# Altium footprint library SOCKET mikroBUS 16 SMD.PcbLib: 1 footprints
Each footprint in its own frame and in the unit in brackets; x right, y up, seen from the top. Pads: shape width x height; smd on the part's side, far side on the other; paste and mask are expansions set on the pad; w line width, h text height; cw(c..) or ccw(c..) is an arc to the next point about the centre after c.
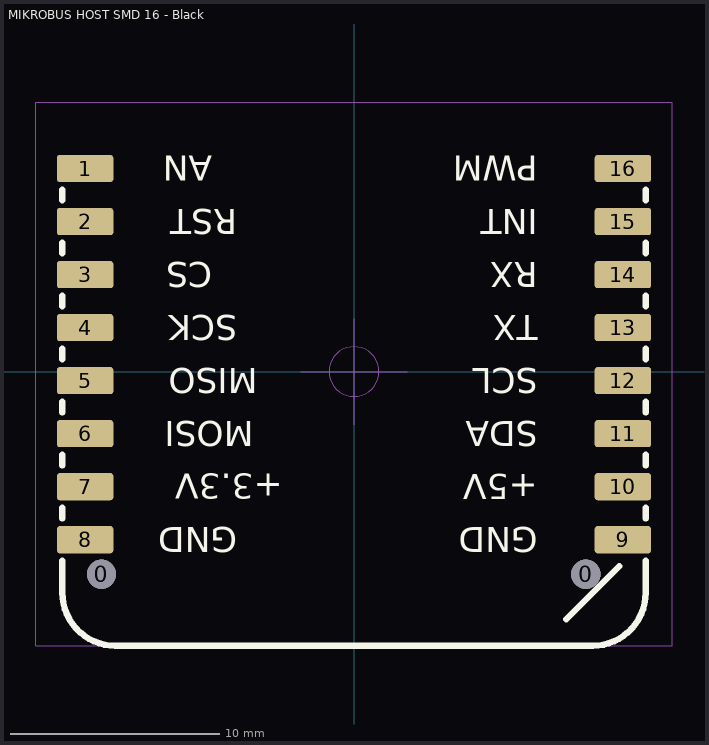
[diagram p0: the footprint, top view; thin cyan lines are the x and y axes]

## MIKROBUS HOST SMD 16 - Black [mm]
height 3.16
pads (18):
  round 1.4 hole 1.4 unplated: 0(-12.094,-9.703) 0(11.106,-9.703)
  rrect20% 2.7x1.3 smd mask+0.076: 1(-12.88,9.728) 2(-12.88,7.188) 3(-12.88,4.648) 4(-12.88,2.108) 5(-12.88,-0.432) 6(-12.88,-2.972) 7(-12.88,-5.512) 8(-12.88,-8.052) 9(12.88,-8.052) 10(12.88,-5.512) 11(12.88,-2.972) 12(12.88,-0.432) 13(12.88,2.108) 14(12.88,4.648) 15(12.88,7.188) 16(12.88,9.728)
Top Overlay:
  lines w0.305: -13.97,-9.068 -13.97,-10.592 ccw(c-11.43,-10.592) -11.43,-13.132 11.43,-13.132 ccw(c11.43,-10.592) 13.97,-10.592 13.97,-9.068 ; -13.97,-7.036 -13.97,-6.528 ; -13.97,-4.496 -13.97,-3.988 ; -13.97,-1.956 -13.97,-1.448 ; -13.97,0.584 -13.97,1.092 ; -13.97,3.124 -13.97,3.632 ; -13.97,5.664 -13.97,6.172 ; -13.97,8.204 -13.97,8.712 ; 10.16,-11.862 12.7,-9.322 ; 13.97,-7.036 13.97,-6.528 ; 13.97,-4.496 13.97,-3.988 ; 13.97,-1.956 13.97,-1.448 ; 13.97,0.584 13.97,1.092 ; 13.97,3.124 13.97,3.632 ; 13.97,5.664 13.97,6.172 ; 13.97,8.204 13.97,8.712
  text "RST" at -5.601,7.788 h1.2
  text "CS" at -6.801,5.248 h1.2
  text "MISO" at -4.601,0.168 h1.2
  text "SCK" at -5.601,2.708 h1.2
  text "MOSI" at -4.801,-2.372 h1.2
  text "+3.3V" at -3.402,-4.9 h1.2
  text "GND" at -5.601,-7.452 h1.2
  text "AN" at -6.801,10.328 h1.2
  text "SCL" at 8.8,0.168 h1.2
  text "INT" at 8.8,7.788 h1.2
  text "+5V" at 8.8,-4.928 h1.2
  text "SDA" at 8.8,-2.372 h1.2
  text "TX" at 8.8,2.708 h1.2
  text "GND" at 8.8,-7.452 h1.2
  text "RX" at 8.8,5.248 h1.2
  text "PWM" at 8.8,10.328 h1.2
Mechanical 15:
  circle w0.051: c0,0 r1.191
  circle w0.051: c0,0 r1.191
  lines w0.051: -15.24,-13.132 -15.24,12.903 15.24,12.903 15.24,-13.132 -15.24,-13.132 ; -2.54,0 2.54,0 -2.54,0 ; 0,-2.54 0,2.54 0,-2.54
3D body "MikrobusSocketBlack.stp": height 11.01, standoff -1.19, extent -13.719,-11.879 13.741,11.015